# Altium footprint library PINPAD.PCBLIB: 151 footprints (part 5 of 10)
Each footprint in its own frame and in the unit in brackets; x right, y up, seen from the top. Pads: shape width x height; smd on the part's side, far side on the other; paste and mask are expansions set on the pad; w line width, h text height; cw(c..) or ccw(c..) is an arc to the next point about the centre after c.
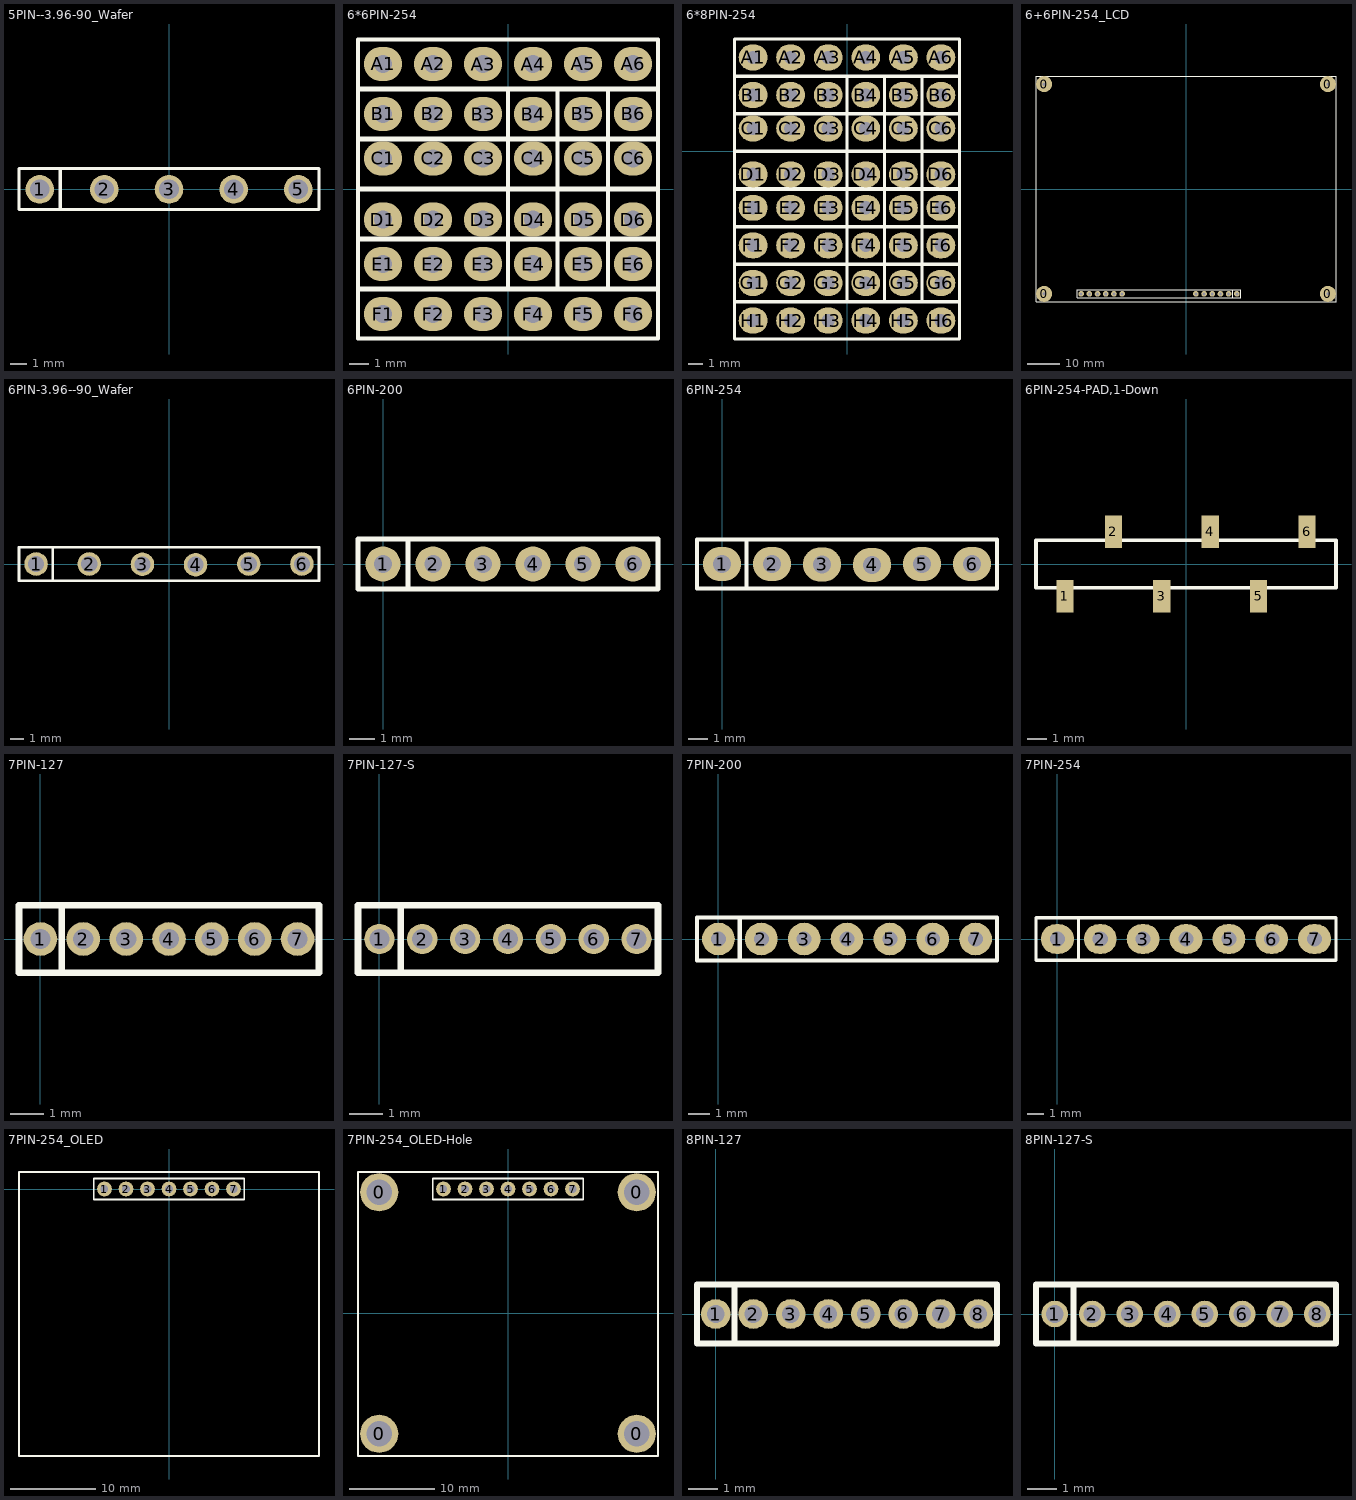
[diagram p4: the footprints below, top view; thin cyan lines are the x and y axes]

## 5PIN--3.96-90_Wafer [mm] "5PIN--3.96-90_Wafer"
pads (5):
  round 1.75 hole 1.2: 1(-7.92,0) 2(-3.96,0) 3(0,0) 4(3.96,0) 5(7.92,0)
TopOverlay:
  lines w0.2: -6.67,-1.175 -6.67,1.275 ; -9.19,-1.225 -9.19,1.275 9.19,1.275 9.19,-1.225 -9.19,-1.225

## 6*6PIN-254 [mm] "6*6PIN-254"
pads (36):
  oval 1.95x1.75 hole 0.9: A1(-6.35,6.35) A2(-3.81,6.35) A3(-1.27,6.35) A4(1.27,6.35) A5(3.81,6.35) A6(6.35,6.35) B1(-6.35,3.81) B2(-3.81,3.81) B3(-1.27,3.81) B4(1.27,3.81) B5(3.81,3.81) B6(6.35,3.81) C1(-6.35,1.55) C2(-3.81,1.55) C3(-1.27,1.55) C4(1.27,1.55) C5(3.81,1.55) C6(6.35,1.55) D1(-6.35,-1.55) D2(-3.81,-1.55) D3(-1.27,-1.55) D4(1.27,-1.55) D5(3.81,-1.55) D6(6.35,-1.55) E1(-6.35,-3.81) E2(-3.81,-3.81) E3(-1.27,-3.81) E4(1.27,-3.81) E5(3.81,-3.81) E6(6.35,-3.81) F1(-6.35,-6.35) F2(-3.81,-6.35) F3(-1.27,-6.35) F4(1.27,-6.35) F5(3.81,-6.35) F6(6.35,-6.35)
TopOverlay:
  lines w0.2: 0,-5.1 0,5.06 ; 2.52,-5.1 2.52,5.06 ; 5.08,-5.06 5.08,5.1 ; -7.62,-7.6 -7.62,-5.1 7.62,-5.1 7.62,-7.6 ; -7.62,-7.6 7.62,-7.6 ; -7.62,-7.6 7.62,-7.6 ; -7.62,-5.06 7.62,-5.06 ; -7.62,-5.06 7.62,-5.06 ; -7.62,-5.06 -7.62,-2.56 7.62,-2.56 7.62,-5.06 ; -7.62,-2.52 -7.62,-0.02 7.62,-0.02 7.62,-2.52 ; -7.62,-2.52 7.62,-2.52 ; -7.62,-2.52 7.62,-2.52 ; -7.62,0.02 7.62,0.02 ; -7.62,0.02 7.62,0.02 ; -7.62,0.02 -7.62,2.52 7.62,2.52 7.62,0.02 ; -7.62,2.56 7.62,2.56 ; -7.62,2.56 7.62,2.56 ; -7.62,2.56 -7.62,5.06 7.62,5.06 7.62,2.56 ; -7.62,5.1 -7.62,7.6 7.62,7.6 7.62,5.1 ; -7.62,5.1 7.62,5.1 ; -7.62,5.1 7.62,5.1

## 6*8PIN-254 [mm] "6*8PIN-254"
pads (48):
  oval 1.95x1.75 hole 0.9: A1(-6.35,6.35) A2(-3.81,6.35) A3(-1.27,6.35) A4(1.27,6.35) A5(3.81,6.35) A6(6.35,6.35) B1(-6.35,3.81) B2(-3.81,3.81) B3(-1.27,3.81) B4(1.27,3.81) B5(3.81,3.81) B6(6.35,3.81) C1(-6.35,1.55) C2(-3.81,1.55) C3(-1.27,1.55) C4(1.27,1.55) C5(3.81,1.55) C6(6.35,1.55) D1(-6.35,-1.55) D2(-3.81,-1.55) D3(-1.27,-1.55) D4(1.27,-1.55) D5(3.81,-1.55) D6(6.35,-1.55) E1(-6.35,-3.81) E2(-3.81,-3.81) E3(-1.27,-3.81) E4(1.27,-3.81) E5(3.81,-3.81) E6(6.35,-3.81) F1(-6.35,-6.35) F2(-3.81,-6.35) F3(-1.27,-6.35) F4(1.27,-6.35) F5(3.81,-6.35) F6(6.35,-6.35) G1(-6.35,-8.89) G2(-3.81,-8.89) G3(-1.27,-8.89) G4(1.27,-8.89) G5(3.81,-8.89) G6(6.35,-8.89) H1(-6.35,-11.43) H2(-3.81,-11.43) H3(-1.27,-11.43) H4(1.27,-11.43) H5(3.81,-11.43) H6(6.35,-11.43)
TopOverlay:
  lines w0.2: 0,-10.18 0,5.06 ; 2.52,-10.14 2.52,5.06 ; 5.08,-10.18 5.08,5.1 ; -7.62,-12.68 -7.62,-10.18 7.62,-10.18 7.62,-12.68 ; -7.62,-12.68 7.62,-12.68 ; -7.62,-12.68 7.62,-12.68 ; -7.62,-10.14 7.62,-10.14 ; -7.62,-10.14 7.62,-10.14 ; -7.62,-10.14 -7.62,-7.64 7.62,-7.64 7.62,-10.14 ; -7.62,-7.6 7.62,-7.6 ; -7.62,-7.6 7.62,-7.6 ; -7.62,-7.6 -7.62,-5.1 7.62,-5.1 7.62,-7.6 ; -7.62,-5.06 -7.62,-2.56 7.62,-2.56 7.62,-5.06 ; -7.62,-5.06 7.62,-5.06 ; -7.62,-5.06 7.62,-5.06 ; -7.62,-2.52 7.62,-2.52 ; -7.62,-2.52 7.62,-2.52 ; -7.62,-2.52 -7.62,-0.02 7.62,-0.02 7.62,-2.52 ; -7.62,0.02 -7.62,2.52 7.62,2.52 7.62,0.02 ; -7.62,0.02 7.62,0.02 ; -7.62,0.02 7.62,0.02 ; -7.62,2.56 -7.62,5.06 7.62,5.06 7.62,2.56 ; -7.62,2.56 7.62,2.56 ; -7.62,2.56 7.62,2.56 ; -7.62,5.1 7.62,5.1 ; -7.62,5.1 7.62,5.1 ; -7.62,5.1 -7.62,7.6 7.62,7.6 7.62,5.1

## 6+6PIN-254_LCD [mm] "6+6PIN-254_LCD"
pads (16):
  round 5 hole 1: 0(-44,-32.5) 0(-44,32.5) 0(44,-32.5) 0(44,32.5)
  round 1.75 hole 0.9: 1(15.76,-32.5) 2(13.22,-32.5) 3(10.68,-32.5) 4(8.14,-32.5) 5(5.6,-32.5) 6(3.06,-32.5) 15(-19.8,-32.5) 16(-22.34,-32.5) 17(-24.88,-32.5) 18(-27.42,-32.5) 19(-29.96,-32.5) 20(-32.5,-32.5)
TopOverlay:
  lines w0.254: -33.77,-33.77 17.03,-33.77 17.03,-31.23 -33.77,-31.23 -33.77,-33.73 ; 14.49,-33.77 14.49,-31.23 ; -46.5,-35 46.5,-35 46.5,35 -46.5,35 -46.5,-35

## 6PIN-3.96--90_Wafer [mm] "6PIN-3.96--90_Wafer"
pads (6):
  round 1.75 hole 1.2: 1(-9.9,0.025) 2(-5.94,0.025) 3(-1.98,0) 4(1.98,-0.025) 5(5.94,0.025) 6(9.9,0.025)
TopOverlay:
  lines w0.2: -8.65,-1.175 -8.65,1.275 ; -11.17,-1.225 -11.17,1.275 11.17,1.275 11.17,-1.225 -11.17,-1.225

## 6PIN-200 [mm]
pads (6):
  round 1.4 hole 0.7: 1(0,0) 2(2,0) 3(4,0) 4(6,0) 5(8,0) 6(10,0)
TopOverlay:
  lines w0.2: 1,-1 1,0.975 ; -1,-1 -1,1 11,1 11,-1 -1,-1

## 6PIN-254 [mm]
pads (6):
  oval 1.95x1.75 hole 0.9: 1(0,0) 2(2.54,0) 3(5.08,-0.025) 4(7.62,-0.05) 5(10.16,0) 6(12.7,0)
TopOverlay:
  lines w0.2: 1.25,-1.2 1.25,1.25 ; -1.27,-1.25 -1.27,1.25 13.97,1.25 13.97,-1.25 -1.27,-1.25

## 6PIN-254-PAD,1-Down [mm] "6PIN-254-PAD,1-Down"
pads (6):
  rect 0.9x1.7 smd: 1(-6.35,-1.7) 2(-3.81,1.7) 3(-1.27,-1.7) 4(1.27,1.7) 5(3.81,-1.7) 6(6.35,1.7)
TopOverlay:
  lines w0.2: -7.87,-1.25 -7.87,1.25 7.87,1.25 7.87,-1.25 -7.87,-1.25

## 7PIN-127 [mm]
pads (7):
  round 1 hole 0.6: 1(0,0) 2(1.27,0) 3(2.54,0) 4(3.81,0) 5(5.08,0) 6(6.35,0) 7(7.62,0)
TopOverlay:
  lines w0.2: 0.635,-1 0.635,1 ; -0.635,-1 -0.635,1 8.255,1 8.255,-1 -0.635,-1

## 7PIN-127-S [mm]
pads (7):
  round 0.9 hole 0.6: 1(0,0) 2(1.27,0) 3(2.54,0) 4(3.81,0) 5(5.08,0) 6(6.35,0) 7(7.62,0)
TopOverlay:
  lines w0.2: 0.635,-1 0.635,1 ; -0.635,-1 8.255,-1 8.255,1 -0.635,1 -0.635,-1

## 7PIN-200 [mil]
pads (7):
  round 60 hole 27.56: 1(0,0) 2(78.74,0) 3(157.48,0) 4(236.22,0) 5(314.96,0) 6(393.7,0) 7(472.44,0)
TopOverlay:
  lines w7.87: 39.37,-39.37 39.37,38.39 ; -39.37,-39.37 -39.37,39.37 511.81,39.37 511.81,-39.37 -39.37,-39.37

## 7PIN-254 [mm]
pads (7):
  oval 1.95x1.75 hole 0.9: 1(0,0) 2(2.54,0) 3(5.08,0) 4(7.62,0) 5(10.16,0) 6(12.7,0) 7(15.24,0)
TopOverlay:
  lines w0.2: 1.25,-1.2 1.25,1.25 ; -1.27,-1.25 16.51,-1.25 16.51,1.25 -1.27,1.25 -1.27,-1.25

## 7PIN-254_OLED [mm] "7PIN-254_OLED"
pads (7):
  round 1.75 hole 0.9: 1(-7.62,0) 2(-5.08,0) 3(-2.54,0) 4(0,0) 5(2.54,0) 6(5.08,0) 7(7.62,0)
TopOverlay:
  lines w0.2: -17.7,-31.5 17.7,-31.5 17.7,2 -17.7,2 -17.7,-31.5 ; -8.89,-1.25 -8.89,1.25 8.89,1.25 8.89,-1.25 -8.89,-1.25

## 7PIN-254_OLED-Hole [mm] "7PIN-254_OLED-Hole"
pads (11):
  round 4.5 hole 3: 0(-15.2,-14.25) 0(-15.2,14.25) 0(15.2,-14.25) 0(15.2,14.25)
  round 1.75 hole 0.9: 1(-7.62,14.638) 2(-5.08,14.638) 3(-2.54,14.638) 4(0,14.638) 5(2.54,14.638) 6(5.08,14.638) 7(7.62,14.638)
TopOverlay:
  lines w0.2: -17.7,-16.862 17.7,-16.862 17.7,16.638 -17.7,16.638 -17.7,-16.862 ; -8.89,13.388 -8.89,15.888 8.89,15.888 8.89,13.388 -8.89,13.388

## 8PIN-127 [mm]
pads (8):
  round 1 hole 0.6: 1(0,0) 2(1.27,0) 3(2.54,0) 4(3.81,0) 5(5.08,0) 6(6.35,0) 7(7.62,0) 8(8.89,0)
TopOverlay:
  lines w0.2: 0.635,-1 0.635,1 ; -0.635,-1 9.525,-1 9.525,1 -0.635,1 -0.635,-1

## 8PIN-127-S [mm]
pads (8):
  round 0.9 hole 0.6: 1(0,0) 2(1.27,0) 3(2.54,0) 4(3.81,0) 5(5.08,0) 6(6.35,0) 7(7.62,0) 8(8.89,0)
TopOverlay:
  lines w0.2: 0.635,-1 0.635,1 ; -0.635,-1 -0.635,1 9.525,1 9.525,-1 -0.635,-1